# EAGLE library part TPS54310 (library IC)
Texas Intruments 3-6V input, 3A output synchronous-buck PWM switcher
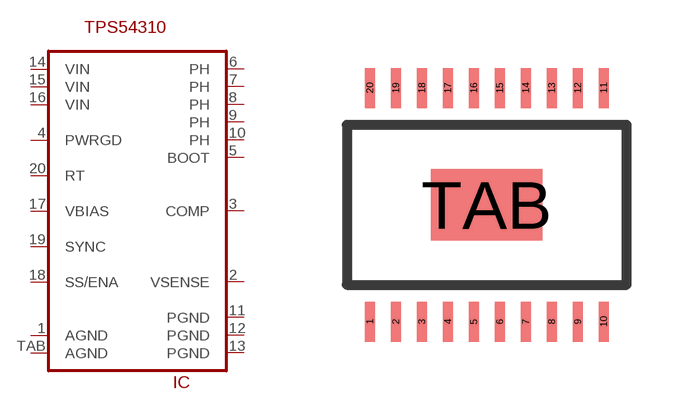
[diagram p76: symbol with the pads of TSSOP20_PWP; footprint TSSOP20_PWP]

Designator prefix IC

## TPS54310"  [TSSOP20_PWP]
1  AGND  pwr
2  VSENSE
3  COMP
4  PWRGD  pwr
5  BOOT
6  PH  pwr
7  PH  pwr
8  PH  pwr
9  PH  pwr
10  PH  pwr
11  PGND  pwr
12  PGND  pwr
13  PGND  pwr
14  VIN  pwr
15  VIN  pwr
16  VIN  pwr
17  VBIAS
18  SS/ENA
19  SYNC
20  RT
TAB  AGND  pwr

## Footprint TSSOP20_PWP (pad centres in mm)
tssop20 with heatsink pad
smd 0.25 x 1: 1 -2.925,-2.925; 2 -2.275,-2.925; 3 -1.625,-2.925; 4 -0.975,-2.925; 5 -0.325,-2.925; 6 0.325,-2.925; 7 0.975,-2.925; 8 1.625,-2.925; 9 2.275,-2.925; 10 2.925,-2.925; 11 2.925,2.925; 12 2.275,2.925; 13 1.625,2.925; 14 0.975,2.925; 15 0.325,2.925; 16 -0.325,2.925; 17 -0.975,2.925; 18 -1.625,2.925; 19 -2.275,2.925; 20 -2.925,2.925
smd 2.794 x 1.778: TAB 0,0